# Altium schematic symbol library IND - Coils.SchLib: 2 symbols
Pins are listed as number, name and electrical type; pins without a type are passive.

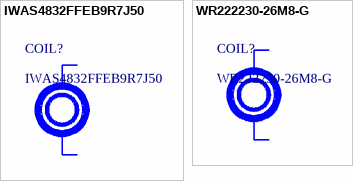
[diagram p0: symbols IWAS4832FFEB9R7J50 to WR222230-26M8-G]

## IWAS4832FFEB9R7J50
designator COIL?
RX 1 COIL 1 LAYER BIFILAR 9.7UH; Manufacturer: Vishay Dale; Function: Receiver; Inductance: 9.7µH; Tolerance: ±5%; DC Resistance (DCR): 200 mOhm; Q @ Freq: 30 @ 200kHz; Supplier 1: Digi-Key; Supplier Part Number 1: 541-1409-ND; Manufacturer Part Number: IWAS4832FFEB9R7J50; RoHS: RoHS Compliant; Category: Inductors, Coils, Chokes; Stock 1: 2937; Pricing 1: 1=4.44, 10=4.07, 25=3.7, 50=3.108, 100=2.664, 250=2.516, 500=2.368, 1000=2.22 (USD); Part Status: Active; Type: 1 Coil, 1 Layer, Bifilar; Current Rating: -; Current - Saturation: -; Frequency - Self Resonant: -; Operating Temperature: -; Size / Dimension: 1.89" L x 1.26" W x 0.04" H (48.0mm x 32.0mm x 1.1mm); ComponentLink1URL: http://www.vishay.com/docs/34311/iwas4832.pdf; ComponentLink1Description: http://www.vishay.com/docs/34311/iwas4832.pdf
footprint COIL IWAS-4832FF-50

## WR222230-26M8-G
designator COIL?
RX 1 COIL 1 LAYER 27UH; Manufacturer: TDK Corporation; Function: Receiver; Inductance: 27µH; DC Resistance (DCR): 1.1 Ohm Max; Supplier 1: Digi-Key; Supplier Part Number 1: 445-173093-ND; Manufacturer Part Number: WR222230-26M8-G; RoHS: RoHS Compliant; Category: Inductors, Coils, Chokes; Stock 1: 453; Pricing 1: 1=5.34, 10=4.895, 25=4.45, 50=3.738, 100=3.204, 250=3.026, 500=2.848, 1000=2.67 (USD); Part Status: Active; Type: 1 Coil, 1 Layer; Tolerance: -; Q @ Freq: -; Current Rating: -; Current - Saturation: -; Frequency - Self Resonant: -; Operating Temperature: -; ComponentLink1URL: https://product.tdk.com/info/en/catalog/datasheets/wlc_rx_wr222230-26m8-g_en.pdf; ComponentLink1Description: https://product.tdk.com/info/en/catalog/datasheets/wlc_rx_wr222230-26m8-g_en.pdf
footprint COIL WR222230-26M8-G